# Altium footprint library a_Valider_AUTRES.PcbLib: 7 footprints
Each footprint in its own frame and in the unit in brackets; x right, y up, seen from the top. Pads: shape width x height; smd on the part's side, far side on the other; paste and mask are expansions set on the pad; w line width, h text height; cw(c..) or ccw(c..) is an arc to the next point about the centre after c.
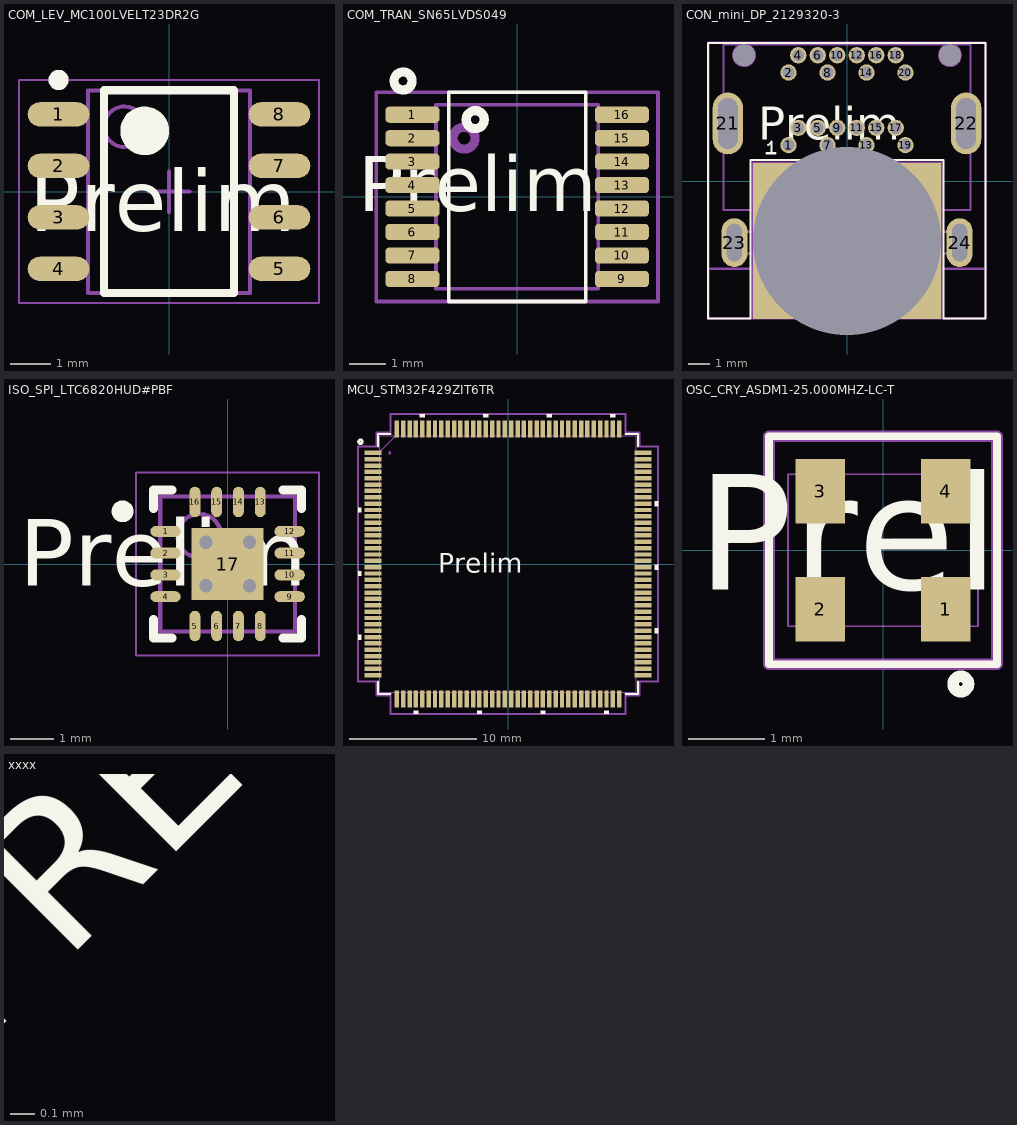
[diagram p0: the footprints below, top view; thin cyan lines are the x and y axes]

## COM_LEV_MC100LVELT23DR2G [mm] "SOIC-8"
height 1.75
pads (8):
  oval 1.52x0.6 smd paste-0.05 mask+0.05: 1(-2.725,1.905) 2(-2.725,0.635) 3(-2.725,-0.635) 4(-2.725,-1.905) 5(2.725,-1.905) 6(2.725,-0.635) 7(2.725,0.635) 8(2.725,1.905)
Top Overlay:
  circle w0.25: c-2.725,2.755 r0.125
  circle w0.6: c-0.6,1.5 r0.3
  lines w0.2: -1.6,-2.5 -1.6,2.5 1.6,2.5 1.6,-2.5 -1.6,-2.5
  text "Prelim" at -3.446,-0.978 h1.52
Top Assembly Drawing:
  circle w0.1: c-1.1,1.6 r0.5
  lines w0.1: -2,-2.5 2,-2.5 2,2.5 -2,2.5 -2,-2.5
Top Courtyard:
  lines w0.05: -3.7,-2.75 -3.7,2.75 3.7,2.75 3.7,-2.75 -3.7,-2.75
  lines w0.1: -0.5,0 0.5,0 ; 0,-0.5 0,0.5
3D body "MC100LVELT23DR2G.STEP": height 1.75, standoff 0, extent -2.997,-2.451 2.997,2.451

## COM_TRAN_SN65LVDS049 [mm] "TTSOP-16"
pads (16):
  rrect50% 1.5x0.45 smd paste-0.05 mask+0.05: 1(-2.9,2.275) 2(-2.9,1.625) 3(-2.9,0.975) 4(-2.9,0.325) 5(-2.9,-0.325) 6(-2.9,-0.975) 7(-2.9,-1.625) 8(-2.9,-2.275) 9(2.9,-2.275) 10(2.9,-1.625) 11(2.9,-0.975) 12(2.9,-0.325) 13(2.9,0.325) 14(2.9,0.975) 15(2.9,1.625) 16(2.9,2.275)
Top Overlay:
  circle w0.254: c-1.162,2.138 r0.25
  circle w0.254: c-3.16,3.208 r0.25
  lines w0.1: -1.9,-2.9 1.9,-2.9 1.9,2.9 -1.9,2.9 -1.9,-2.9
  text "Prelim" at -4.409,-0.402 h1.52
Top Assembly Drawing:
  circle w0.254: c-1.471,1.625 r0.304
  lines w0.1: -2.25,-2.55 -2.25,2.55 2.25,2.55 2.25,-2.55 -2.25,-2.55
Top Courtyard:
  lines w0.1: -3.9,-2.9 3.9,-2.9 3.9,2.9 -3.9,2.9 -3.9,-2.9
3D body "SN65LVDS049PWR.STEP": height 1.2, standoff 0, extent -3.2,-2.5 3.2,2.5

## CON_mini_DP_2129320-3 [mm] "Mini Displayport"
height 4.7
pads (27):
  round 0.75 hole 0.55 mask+0: 1(-2.7,1.675) 2(-2.7,5.025) 3(-2.25,2.475) 4(-2.25,5.825) 5(-1.35,2.475) 6(-1.35,5.825) 7(-0.9,1.675) 8(-0.9,5.025) 9(-0.45,2.475) 10(-0.45,5.825) 11(0.45,2.475) 12(0.45,5.825) 13(0.9,1.675) 14(0.9,5.025) 15(1.35,2.475) 16(1.35,5.825) 17(2.25,2.475) 18(2.25,5.825) 19(2.7,1.675) 20(2.7,5.025)
  oval 1.4x2.85 hole 2.35 slot 0.9 at 0 deg: 21(-5.5,2.675) 22(5.5,2.675)
  oval 1.2x2.25 hole 1.74 slot 0.7 at 0 deg: 23(-5.2,-2.825) 24(5.2,-2.825)
  round 1 hole 1 unplated mask+0: ""(-4.75,5.825) ""(4.75,5.825)
  rect 8.7x7.2 hole 8.7 square unplated mask+0: ""(0,-2.75)
Top Overlay:
  lines w0.1: -3.704,1.301 -3.295,1.301 ; -3.636,1.675 -3.48,1.831 -3.48,1.303 ; -6.419,-6.325 -6.419,6.394 6.4,6.394 6.4,-6.325 4.453,-6.325 4.453,0.984 -4.46,0.984 -4.46,-6.325 -6.419,-6.325
  text "Prelim" at -4.096,1.929 h1.52
Top Assembly Drawing:
  circle w0.1: c4.75,5.825 r0.5
  circle w0.1: c-4.75,5.825 r0.5
  lines w0.1: -5.7,-1.325 -4.15,-1.325 -4.15,-2.325 -5.2,-2.325 -5.2,-3.325 -4.15,-3.325 -4.15,-6.325 4.15,-6.325 4.15,-3.325 5.2,-3.325 5.2,-2.325 4.15,-2.325 4.15,-1.325 5.7,-1.325 5.7,6.325 -5.7,6.325 -5.7,-1.325
Board Outline:
  lines w0.1: -6.419,-6.325 -6.419,-4.034 6.4,-4.034 6.4,-6.325 -6.419,-6.325
  text "Board edge area" at -10.893,-8.554 h1.52
Top Courtyard:
  lines w0.1: -6.4,-6.325 -4.35,-6.325 -4.35,0.875 4.35,0.875 4.35,-6.3 4.375,-6.325 6.4,-6.325 6.4,6.4 -6.4,6.4 -6.4,-6.325
3D body "2129320-3.stp": height 4.2, standoff -2.2, extent -5.7,-6.325 5.7,6.325

## ISO_SPI_LTC6820HUD#PBF [mm] "QFN, 16-Leads, Body 3,00x3,00mm, Pitch 0,50mm, Thermal Pad 1,60x1,60mm, IPC Medium Density"
height 0.8
pads (17):
  oval 0.7x0.25 smd paste-0.05 mask+0.05: 1(-1.425,0.75) 2(-1.425,0.25) 3(-1.425,-0.25) 4(-1.425,-0.75) 9(1.425,-0.75) 10(1.425,-0.25) 11(1.425,0.25) 12(1.425,0.75)
  oval 0.25x0.7 smd paste-0.05 mask+0.05: 5(-0.75,-1.425) 6(-0.25,-1.425) 7(0.25,-1.425) 8(0.75,-1.425) 13(0.75,1.425) 14(0.25,1.425) 15(-0.25,1.425) 16(-0.75,1.425)
  rect 1.65x1.65 smd paste-0.05 mask+0.05: 17(0,0)
via -0.5,0.5 diameter 0.5 hole 0.3
via 0.5,0.5 diameter 0.5 hole 0.3
via 0.5,-0.5 diameter 0.5 hole 0.3
via -0.5,-0.5 diameter 0.5 hole 0.3
Top Overlay:
  circle w0.25: c-2.411,1.21 r0.125
  lines w0.2: -1.7,-1.275 -1.7,-1.7 -1.275,-1.7 ; -1.7,1.275 -1.7,1.7 -1.275,1.7 ; 1.275,-1.7 1.7,-1.7 1.7,-1.275 ; 1.275,1.7 1.7,1.7 1.7,1.275
  text "Prelim" at -4.79,-0.496 h1.52
Top Assembly Drawing:
  circle w0.1: c-0.65,0.65 r0.5
  lines w0.1: -1.55,-1.55 -1.55,1.55 1.55,1.55 1.55,-1.55 -1.55,-1.55
Route Tool Path:
  lines w0.05: -2.1,-2.1 -2.1,2.1 2.1,2.1 2.1,-2.1 -2.1,-2.1
  lines w0.1: -0.5,0 0.5,0 ; 0,-0.5 0,0.5
3D body: height 0.8, standoff 0, extent -1.55,-1.55 1.55,1.55

## MCU_STM32F429ZIT6TR [mm] "LQFP-144"
pads (144):
  rect 1.35x0.35 smd paste-0.05 mask+0.05: 1(-10.625,8.75) 2(-10.625,8.25) 3(-10.625,7.75) 4(-10.625,7.25) 5(-10.625,6.75) 6(-10.625,6.25) 7(-10.625,5.75) 8(-10.625,5.25) 9(-10.625,4.75) 10(-10.625,4.25) 11(-10.625,3.75) 12(-10.625,3.25) 13(-10.625,2.75) 14(-10.625,2.25) 15(-10.625,1.75) 16(-10.625,1.25) 17(-10.625,0.75) 18(-10.625,0.25) 19(-10.625,-0.25) 20(-10.625,-0.75) 21(-10.625,-1.25) 22(-10.625,-1.75) 23(-10.625,-2.25) 24(-10.625,-2.75) 25(-10.625,-3.25) 26(-10.625,-3.75) 27(-10.625,-4.25) 28(-10.625,-4.75) 29(-10.625,-5.25) 30(-10.625,-5.75) 31(-10.625,-6.25) 32(-10.625,-6.75) 33(-10.625,-7.25) 34(-10.625,-7.75) 35(-10.625,-8.25) 36(-10.625,-8.75) 73(10.625,-8.75) 74(10.625,-8.25) 75(10.625,-7.75) 76(10.625,-7.25) 77(10.625,-6.75) 78(10.625,-6.25) 79(10.625,-5.75) 80(10.625,-5.25) 81(10.625,-4.75) 82(10.625,-4.25) 83(10.625,-3.75) 84(10.625,-3.25) 85(10.625,-2.75) 86(10.625,-2.25) 87(10.625,-1.75) 88(10.625,-1.25) 89(10.625,-0.75) 90(10.625,-0.25) 91(10.625,0.25) 92(10.625,0.75) 93(10.625,1.25) 94(10.625,1.75) 95(10.625,2.25) 96(10.625,2.75) 97(10.625,3.25) 98(10.625,3.75) 99(10.625,4.25) 100(10.625,4.75) 101(10.625,5.25) 102(10.625,5.75) 103(10.625,6.25) 104(10.625,6.75) 105(10.625,7.25) 106(10.625,7.75) 107(10.625,8.25) 108(10.625,8.75)
  rect 0.35x1.35 smd paste-0.05 mask+0.05: 37(-8.75,-10.625) 38(-8.25,-10.625) 39(-7.75,-10.625) 40(-7.25,-10.625) 41(-6.75,-10.625) 42(-6.25,-10.625) 43(-5.75,-10.625) 44(-5.25,-10.625) 45(-4.75,-10.625) 46(-4.25,-10.625) 47(-3.75,-10.625) 48(-3.25,-10.625) 49(-2.75,-10.625) 50(-2.25,-10.625) 51(-1.75,-10.625) 52(-1.25,-10.625) 53(-0.75,-10.625) 54(-0.25,-10.625) 55(0.25,-10.625) 56(0.75,-10.625) 57(1.25,-10.625) 58(1.75,-10.625) 59(2.25,-10.625) 60(2.75,-10.625) 61(3.25,-10.625) 62(3.75,-10.625) 63(4.25,-10.625) 64(4.75,-10.625) 65(5.25,-10.625) 66(5.75,-10.625) 67(6.25,-10.625) 68(6.75,-10.625) 69(7.25,-10.625) 70(7.75,-10.625) 71(8.25,-10.625) 72(8.75,-10.625) 109(8.75,10.625) 110(8.25,10.625) 111(7.75,10.625) 112(7.25,10.625) 113(6.75,10.625) 114(6.25,10.625) 115(5.75,10.625) 116(5.25,10.625) 117(4.75,10.625) 118(4.25,10.625) 119(3.75,10.625) 120(3.25,10.625) 121(2.75,10.625) 122(2.25,10.625) 123(1.75,10.625) 124(1.25,10.625) 125(0.75,10.625) 126(0.25,10.625) 127(-0.25,10.625) 128(-0.75,10.625) 129(-1.25,10.625) 130(-1.75,10.625) 131(-2.25,10.625) 132(-2.75,10.625) 133(-3.25,10.625) 134(-3.75,10.625) 135(-4.25,10.625) 136(-4.75,10.625) 137(-5.25,10.625) 138(-5.75,10.625) 139(-6.25,10.625) 140(-6.75,10.625) 141(-7.25,10.625) 142(-7.75,10.625) 143(-8.25,10.625) 144(-8.75,10.625)
Top Overlay:
  circle w0.203: c-11.617,9.621 r0.152
  region: -11.557,-5.575 -11.811,-5.575 -11.811,-5.956 -11.557,-5.956
  region: -6.559,11.552 -6.94,11.552 -6.94,11.806 -6.559,11.806
  region: -1.559,11.552 -1.94,11.552 -1.94,11.806 -1.559,11.806
  region: 3.441,11.552 3.06,11.552 3.06,11.806 3.441,11.806
  region: 8.441,11.552 8.06,11.552 8.06,11.806 8.441,11.806
  region: 11.552,4.941 11.806,4.941 11.806,4.56 11.552,4.56
  region: 11.552,-0.059 11.806,-0.059 11.806,-0.44 11.552,-0.44
  region: 11.552,-5.059 11.806,-5.059 11.806,-5.44 11.552,-5.44
  region: 7.94,-11.552 7.559,-11.552 7.559,-11.806 7.94,-11.806
  region: 2.94,-11.552 2.559,-11.552 2.559,-11.806 2.94,-11.806
  region: -2.06,-11.552 -2.441,-11.552 -2.441,-11.806 -2.06,-11.806
  region: -7.06,-11.552 -7.441,-11.552 -7.441,-11.806 -7.06,-11.806
  region: -11.552,-0.56 -11.806,-0.56 -11.806,-0.941 -11.552,-0.941
  region: -11.552,4.44 -11.806,4.44 -11.806,4.059 -11.552,4.059
  lines w0.152: -10.223,-9.261 -10.223,-10.223 -9.261,-10.223 ; -10.223,9.261 -10.223,10.223 -9.261,10.223 ; 9.261,-10.223 10.223,-10.223 10.223,-9.261 ; 9.261,10.223 10.223,10.223 10.223,9.261
  text "Prelim" at -5.496,-0.687 h1.52
Top 3D Model:
  circle w0: c-9.317,8.75 r0.076
  lines w0.025: -10.096,8.826 -8.826,10.096 ; -10.096,-10.096 -10.096,10.096 10.096,10.096 10.096,-10.096 -10.096,-10.096
Top Courtyard:
  lines w0.152: -11.806,-9.258 -11.806,9.258 -10.351,9.258 -10.351,10.351 -9.258,10.351 -9.258,11.806 9.258,11.806 9.258,10.351 10.351,10.351 10.351,9.258 11.806,9.258 11.806,-9.258 10.351,-9.258 10.351,-10.351 9.258,-10.351 9.258,-11.806 -9.258,-11.806 -9.258,-10.351 -10.351,-10.351 -10.351,-9.258 -11.806,-9.258
3D body: height 0.25, standoff 0, extent 0,0 0.254,0.254
3D body "LQFP144-20x20mm.step": height 1.6, standoff 0, extent -10.948,-10.948 10.948,10.948

## OSC_CRY_ASDM1-25.000MHZ-LC-T [mm] "4-SMD, No Lead"
height 0.89
pads (4):
  rect 0.65x0.85 smd paste-0.05 mask+0.05: 1(0.825,-0.775) 2(-0.825,-0.775) 3(-0.825,0.775) 4(0.825,0.775)
Top Overlay:
  circle w0.152: c1.023,-1.76 r0.102
  lines w0.1: -1.5,-1.5 -1.5,1.5 1.5,1.5 1.5,-1.5 -1.5,-1.5
  text "Prelim" at -2.448,-0.521 h1.52
Top Assembly Drawing:
  lines w0.025: -1.25,-1 1.25,-1 1.25,1 -1.25,1 -1.25,-1
Top Courtyard:
  lines w0.152: -1.5,-1.5 -1.5,1.5 1.5,1.5 1.5,-1.5 -1.5,-1.5
3D body: height 0.85, standoff 0, extent -1.25,-1 1.25,1

## xxxx [mm]
Top Overlay:
  text "PRELIMINARY" at -2.464,-2.997 h1.25